# Altium footprint library Resistor.PcbLib: 2 footprints
Each footprint in its own frame and in the unit in brackets; x right, y up, seen from the top. Pads: shape width x height; smd on the part's side, far side on the other; paste and mask are expansions set on the pad; w line width, h text height; cw(c..) or ccw(c..) is an arc to the next point about the centre after c.
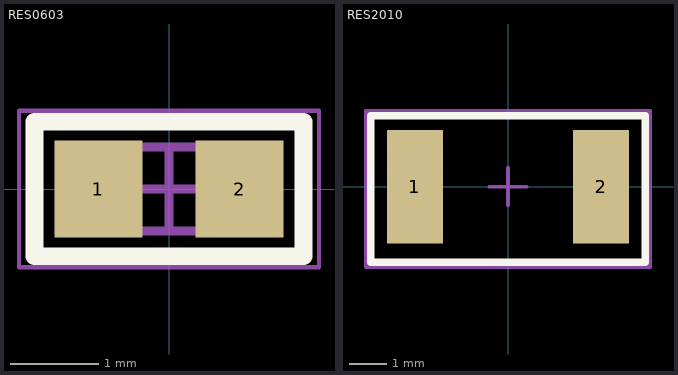
[diagram p0: the footprints below, top view; thin cyan lines are the x and y axes]

## RES0603 [mm]
pads (2):
  rect 1x1.1 smd: 1(-0.8,0) 2(0.8,0)
Top Overlay:
  lines w0.2: -1.524,-0.762 1.524,-0.762 1.524,0.762 -1.524,0.762 -1.524,-0.762
Mechanical 1:
  lines w0.1: -0.875,-0.475 -0.875,0.475 0.875,0.475 0.875,-0.475 -0.875,-0.475
  text ".Designator" at 0,0 h0.6
Mechanical 13:
  lines w0.1: -0.875,-0.475 -0.875,0.475 0.875,0.475 0.875,-0.475 -0.875,-0.475
Mechanical 15:
  lines w0.05: -1.7,-0.889 -1.7,0.889 1.7,0.889 1.7,-0.889 -1.7,-0.889
  lines w0.1: -0.475,0 0.475,0 ; 0,-0.475 0,0.475
3D body: height 0.87, standoff 0, extent -0.525,-0.475 0.525,0.475
3D body: height 0.87, standoff 0, extent -0.875,-0.475 -0.525,0.475
3D body: height 0.87, standoff 0, extent 0.525,-0.475 0.875,0.475

## RES2010 [mm]
pads (2):
  rect 1.5x3.05 smd: 1(-2.5,0) 2(2.5,0)
Top Overlay:
  lines w0.2: -3.683,-2.032 3.683,-2.032 3.683,1.905 -3.683,1.905 -3.683,0.034 -3.683,-2.032
Mechanical 1:
  lines w0.1: -3.683,-2.032 -3.683,1.905 3.683,1.905 3.683,-2.032 -3.683,-2.032
  text ".Designator" at -0.124,-0.048 h1.5
Mechanical 15:
  lines w0.1: -0.5,0 0.5,0 ; 0,-0.5 0,0.5 ; -3.81,-2.159 -3.81,2.032 3.81,2.032 3.81,-2.159 -3.81,-2.159
3D body "User Library-SMD RESISTOR-1.step": height 0.55, standoff -0.05, extent -2.627,-1.25 2.373,1.25